# Altium schematic symbol library jlcpcb_2025_04_inductors_extended_1206.schlib: 159 symbols (part 2 of 3)
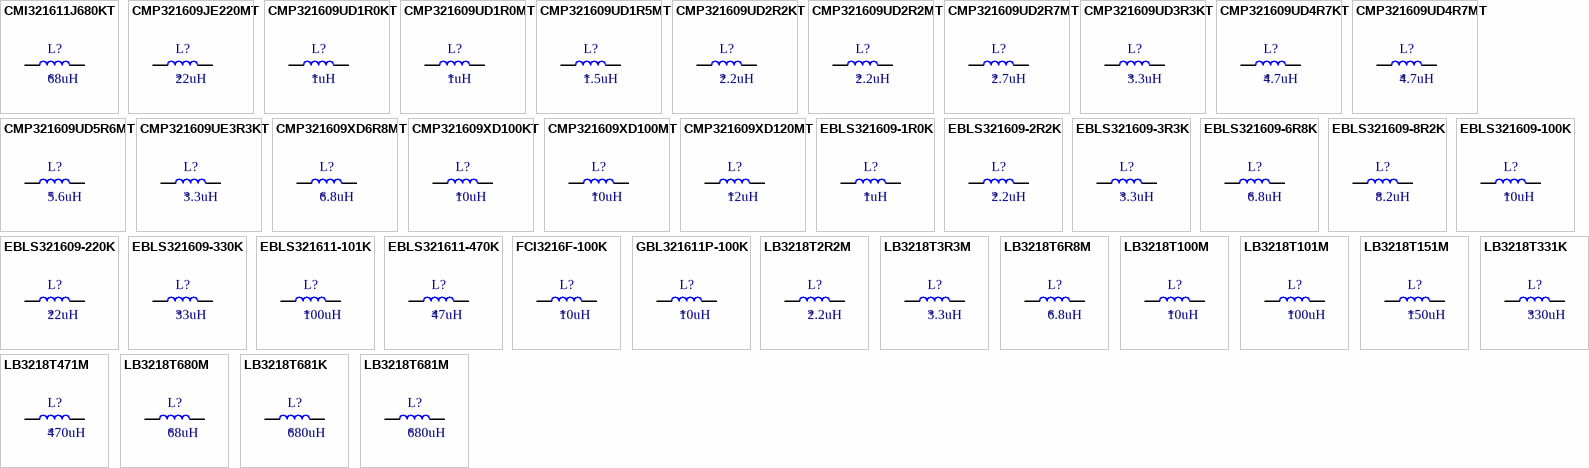
[diagram p4: symbols CMI321611J680KT to LB3218T681M]

## CMP321609UD4R7MT
designator L?  Inductance: 4.7uH
Inductor, 4.7uH, ±20%, 380mΩ, 700mA, SMD 1206; Manufacturer: FH(Guangdong Fenghua Advanced Tech); Manufacturer Part Number: CMP321609UD4R7MT; Self-Resonant Frequency: 35MHz; Package Size: 1206; JLCPCB Basic Part: No; JLCPCB Part Number: C139250; Supplier 1: LCSC; Category: Inductors; Supplier Part Number 1: C139250; Tolerance: ±20%; Rated Current: 700mA; DC Resistance: 380mΩ; RoHS: Yes; ComponentLink1Description: Datasheet; ComponentLink1URL: https://wmsc.lcsc.com/wmsc/upload/file/pdf/v2/lcsc/2302231230_FH--Guangdong-Fenghua-Advanced-Tech-CMP321609UD4R7MT_C139250.pdf; ComponentLink2Description: JLCPCB Part URL; ComponentLink2URL: https://jlcpcb.com/partdetail/C139250; ComponentLink3Description: LCSC Part URL; ComponentLink3URL: https://lcsc.com/product-detail/Inductors-SMD_FH-Guangdong-Fenghua-Advanced-Tech-FH-Guangdong-Fenghua-Advanced-Tech-CMP321609UD4R7MT_C139250.html
footprint IND-1206 (1206 (3216M) Inductor)
pins: 1, 2

## CMP321609UD5R6MT
designator L?  Inductance: 5.6uH
Inductor, 5.6uH, ±20%, 450mΩ, 500mA, SMD 1206; Manufacturer: FH(Guangdong Fenghua Advanced Tech); Manufacturer Part Number: CMP321609UD5R6MT; Self-Resonant Frequency: 32MHz; Package Size: 1206; JLCPCB Basic Part: No; JLCPCB Part Number: C395027; Supplier 1: LCSC; Category: Inductors; Supplier Part Number 1: C395027; Tolerance: ±20%; Rated Current: 500mA; DC Resistance: 450mΩ; RoHS: Yes; ComponentLink1Description: Datasheet; ComponentLink1URL: https://wmsc.lcsc.com/wmsc/upload/file/pdf/v2/lcsc/2302231208_FH--Guangdong-Fenghua-Advanced-Tech-CMP321609UD5R6MT_C395027.pdf; ComponentLink2Description: JLCPCB Part URL; ComponentLink2URL: https://jlcpcb.com/partdetail/C395027; ComponentLink3Description: LCSC Part URL; ComponentLink3URL: https://lcsc.com/product-detail/Inductors-SMD_FH-Guangdong-Fenghua-Advanced-Tech-FH-Guangdong-Fenghua-Advanced-Tech-CMP321609UD5R6MT_C395027.html
footprint IND-1206 (1206 (3216M) Inductor)
pins: 1, 2

## CMP321609UE3R3KT
designator L?  Inductance: 3.3uH
Inductor, 3.3uH, ±10%, SMD 1206; Manufacturer: FH (Guangdong Fenghua Advanced Tech); Manufacturer Part Number: CMP321609UE3R3KT; Package Size: 1206; JLCPCB Basic Part: No; JLCPCB Part Number: C401473; Supplier 1: LCSC; Category: Inductors; Supplier Part Number 1: C401473; Tolerance: ±10%; RoHS: Yes; ComponentLink1Description: Datasheet; ComponentLink2Description: JLCPCB Part URL; ComponentLink2URL: https://jlcpcb.com/partdetail/C401473; ComponentLink3Description: LCSC Part URL; ComponentLink3URL: https://lcsc.com/product-detail/Inductors-SMD_FH-Guangdong-Fenghua-Advanced-Tech-FH-Guangdong-Fenghua-Advanced-Tech-CMP321609UE3R3KT_C401473.html
footprint IND-1206 (1206 (3216M) Inductor)
pins: 1, 2

## CMP321609XD6R8MT
designator L?  Inductance: 6.8uH
Inductor, 6.8uH, ±20%, 450mΩ, 500mA, SMD 1206; Manufacturer: FH(Guangdong Fenghua Advanced Tech); Manufacturer Part Number: CMP321609XD6R8MT; Self-Resonant Frequency: 29MHz; Package Size: 1206; JLCPCB Basic Part: No; JLCPCB Part Number: C395031; Supplier 1: LCSC; Category: Inductors; Supplier Part Number 1: C395031; Tolerance: ±20%; Rated Current: 500mA; DC Resistance: 450mΩ; RoHS: Yes; ComponentLink1Description: Datasheet; ComponentLink1URL: https://wmsc.lcsc.com/wmsc/upload/file/pdf/v2/lcsc/2302231208_FH--Guangdong-Fenghua-Advanced-Tech-CMP321609XD6R8MT_C395031.pdf; ComponentLink2Description: JLCPCB Part URL; ComponentLink2URL: https://jlcpcb.com/partdetail/C395031; ComponentLink3Description: LCSC Part URL; ComponentLink3URL: https://lcsc.com/product-detail/Inductors-SMD_FH-Guangdong-Fenghua-Advanced-Tech-FH-Guangdong-Fenghua-Advanced-Tech-CMP321609XD6R8MT_C395031.html
footprint IND-1206 (1206 (3216M) Inductor)
pins: 1, 2

## CMP321609XD100KT
designator L?  Inductance: 10uH
Inductor, 10uH, ±10%, SMD 1206; Manufacturer: FH(Guangdong Fenghua Advanced Tech); Manufacturer Part Number: CMP321609XD100KT; Package Size: 1206; JLCPCB Basic Part: No; JLCPCB Part Number: C139251; Supplier 1: LCSC; Category: Inductors; Supplier Part Number 1: C139251; Tolerance: ±10%; RoHS: Yes; ComponentLink1Description: Datasheet; ComponentLink1URL: https://wmsc.lcsc.com/wmsc/upload/file/pdf/v2/lcsc/2304140030_FH--Guangdong-Fenghua-Advanced-Tech-CMP321609XD100KT_C139251.pdf; ComponentLink2Description: JLCPCB Part URL; ComponentLink2URL: https://jlcpcb.com/partdetail/C139251; ComponentLink3Description: LCSC Part URL; ComponentLink3URL: https://lcsc.com/product-detail/Inductors-SMD_FH-Guangdong-Fenghua-Advanced-Tech-FH-Guangdong-Fenghua-Advanced-Tech-CMP321609XD100KT_C139251.html
footprint IND-1206 (1206 (3216M) Inductor)
pins: 1, 2

## CMP321609XD100MT
designator L?  Inductance: 10uH
Inductor, 10uH, ±20%, 550mΩ, 300mA, SMD 1206; Manufacturer: FH(Guangdong Fenghua Advanced Tech); Manufacturer Part Number: CMP321609XD100MT; Self-Resonant Frequency: 24MHz; Package Size: 1206; JLCPCB Basic Part: No; JLCPCB Part Number: C395029; Supplier 1: LCSC; Category: Inductors; Supplier Part Number 1: C395029; Tolerance: ±20%; Rated Current: 300mA; DC Resistance: 550mΩ; RoHS: Yes; ComponentLink1Description: Datasheet; ComponentLink1URL: https://wmsc.lcsc.com/wmsc/upload/file/pdf/v2/lcsc/2302231208_FH--Guangdong-Fenghua-Advanced-Tech-CMP321609XD100MT_C395029.pdf; ComponentLink2Description: JLCPCB Part URL; ComponentLink2URL: https://jlcpcb.com/partdetail/C395029; ComponentLink3Description: LCSC Part URL; ComponentLink3URL: https://lcsc.com/product-detail/Inductors-SMD_FH-Guangdong-Fenghua-Advanced-Tech-FH-Guangdong-Fenghua-Advanced-Tech-CMP321609XD100MT_C395029.html
footprint IND-1206 (1206 (3216M) Inductor)
pins: 1, 2

## CMP321609XD120MT
designator L?  Inductance: 12uH
Inductor, 12uH, ±20%, 550mΩ, 300mA, SMD 1206; Manufacturer: FH(Guangdong Fenghua Advanced Tech); Manufacturer Part Number: CMP321609XD120MT; Self-Resonant Frequency: 22MHz; Package Size: 1206; JLCPCB Basic Part: No; JLCPCB Part Number: C395030; Supplier 1: LCSC; Category: Inductors; Supplier Part Number 1: C395030; Tolerance: ±20%; Rated Current: 300mA; DC Resistance: 550mΩ; RoHS: Yes; ComponentLink1Description: Datasheet; ComponentLink1URL: https://wmsc.lcsc.com/wmsc/upload/file/pdf/v2/lcsc/2302231208_FH--Guangdong-Fenghua-Advanced-Tech-CMP321609XD120MT_C395030.pdf; ComponentLink2Description: JLCPCB Part URL; ComponentLink2URL: https://jlcpcb.com/partdetail/C395030; ComponentLink3Description: LCSC Part URL; ComponentLink3URL: https://lcsc.com/product-detail/Inductors-SMD_FH-Guangdong-Fenghua-Advanced-Tech-FH-Guangdong-Fenghua-Advanced-Tech-CMP321609XD120MT_C395030.html
footprint IND-1206 (1206 (3216M) Inductor)
pins: 1, 2

## EBLS321609-1R0K
designator L?  Inductance: 1uH
Inductor, 1uH, ±10%, 0.4Ω, 100mA, SMD 1206; Manufacturer: HYHONGYEX; Manufacturer Part Number: EBLS321609-1R0K; Self-Resonant Frequency: 75MHz; Q Factor: 45@10MHz; Package Size: 1206; JLCPCB Basic Part: No; JLCPCB Part Number: C963816; Supplier 1: LCSC; Category: Inductors; Supplier Part Number 1: C963816; Tolerance: ±10%; Rated Current: 100mA; DC Resistance: 0.4Ω; RoHS: Yes; ComponentLink1Description: Datasheet; ComponentLink1URL: https://wmsc.lcsc.com/wmsc/upload/file/pdf/v2/lcsc/2305190958_HYHONGYEX-EBLS321609-1R0K_C963816.pdf; ComponentLink2Description: JLCPCB Part URL; ComponentLink2URL: https://jlcpcb.com/partdetail/C963816; ComponentLink3Description: LCSC Part URL; ComponentLink3URL: https://lcsc.com/product-detail/Inductors-SMD_HYHONGYEX-HYHONGYEX-EBLS321609-1R0K_C963816.html
footprint IND-1206 (1206 (3216M) Inductor)
pins: 1, 2

## EBLS321609-2R2K
designator L?  Inductance: 2.2uH
Inductor, 2.2uH, ±10%, 0.6Ω, 50mA, SMD 1206; Manufacturer: HYHONGYEX; Manufacturer Part Number: EBLS321609-2R2K; Self-Resonant Frequency: 50MHz; Q Factor: 45@10MHz; Package Size: 1206; JLCPCB Basic Part: No; JLCPCB Part Number: C963817; Supplier 1: LCSC; Category: Inductors; Supplier Part Number 1: C963817; Tolerance: ±10%; Rated Current: 50mA; DC Resistance: 0.6Ω; RoHS: Yes; ComponentLink1Description: Datasheet; ComponentLink1URL: https://wmsc.lcsc.com/wmsc/upload/file/pdf/v2/lcsc/2305190958_HYHONGYEX-EBLS321609-2R2K_C963817.pdf; ComponentLink2Description: JLCPCB Part URL; ComponentLink2URL: https://jlcpcb.com/partdetail/C963817; ComponentLink3Description: LCSC Part URL; ComponentLink3URL: https://lcsc.com/product-detail/Inductors-SMD_HYHONGYEX-HYHONGYEX-EBLS321609-2R2K_C963817.html
footprint IND-1206 (1206 (3216M) Inductor)
pins: 1, 2

## EBLS321609-3R3K
designator L?  Inductance: 3.3uH
Inductor, 3.3uH, ±10%, 0.7Ω, 50mA, SMD 1206; Manufacturer: HYHONGYEX; Manufacturer Part Number: EBLS321609-3R3K; Package Size: 1206; JLCPCB Basic Part: No; JLCPCB Part Number: C963818; Supplier 1: LCSC; Category: Inductors; Supplier Part Number 1: C963818; Tolerance: ±10%; Rated Current: 50mA; DC Resistance: 0.7Ω; RoHS: Yes; ComponentLink1Description: Datasheet; ComponentLink1URL: https://wmsc.lcsc.com/wmsc/upload/file/pdf/v2/lcsc/2305190958_HYHONGYEX-EBLS321609-3R3K_C963818.pdf; ComponentLink2Description: JLCPCB Part URL; ComponentLink2URL: https://jlcpcb.com/partdetail/C963818; ComponentLink3Description: LCSC Part URL; ComponentLink3URL: https://lcsc.com/product-detail/Inductors-SMD_HYHONGYEX-HYHONGYEX-EBLS321609-3R3K_C963818.html
footprint IND-1206 (1206 (3216M) Inductor)
pins: 1, 2

## EBLS321609-6R8K
designator L?  Inductance: 6.8uH
Inductor, 6.8uH, ±10%, 0.8Ω, 25mA, SMD 1206; Manufacturer: HYHONGYEX; Manufacturer Part Number: EBLS321609-6R8K; Self-Resonant Frequency: 29MHz; Q Factor: 50@4MHz; Package Size: 1206; JLCPCB Basic Part: No; JLCPCB Part Number: C963821; Supplier 1: LCSC; Category: Inductors; Supplier Part Number 1: C963821; Tolerance: ±10%; Rated Current: 25mA; DC Resistance: 0.8Ω; RoHS: Yes; ComponentLink1Description: Datasheet; ComponentLink1URL: https://wmsc.lcsc.com/wmsc/upload/file/pdf/v2/lcsc/2305190958_HYHONGYEX-EBLS321609-6R8K_C963821.pdf; ComponentLink2Description: JLCPCB Part URL; ComponentLink2URL: https://jlcpcb.com/partdetail/C963821; ComponentLink3Description: LCSC Part URL; ComponentLink3URL: https://lcsc.com/product-detail/Inductors-SMD_HYHONGYEX-HYHONGYEX-EBLS321609-6R8K_C963821.html
footprint IND-1206 (1206 (3216M) Inductor)
pins: 1, 2

## EBLS321609-8R2K
designator L?  Inductance: 8.2uH
Inductor, 8.2uH, ±10%, 0.9Ω, 25mA, SMD 1206; Manufacturer: HYHONGYEX; Manufacturer Part Number: EBLS321609-8R2K; Package Size: 1206; JLCPCB Basic Part: No; JLCPCB Part Number: C963822; Supplier 1: LCSC; Category: Inductors; Supplier Part Number 1: C963822; Tolerance: ±10%; Rated Current: 25mA; DC Resistance: 0.9Ω; RoHS: Yes; ComponentLink1Description: Datasheet; ComponentLink1URL: https://wmsc.lcsc.com/wmsc/upload/file/pdf/v2/lcsc/2305190958_HYHONGYEX-EBLS321609-8R2K_C963822.pdf; ComponentLink2Description: JLCPCB Part URL; ComponentLink2URL: https://jlcpcb.com/partdetail/C963822; ComponentLink3Description: LCSC Part URL; ComponentLink3URL: https://lcsc.com/product-detail/Inductors-SMD_HYHONGYEX-HYHONGYEX-EBLS321609-8R2K_C963822.html
footprint IND-1206 (1206 (3216M) Inductor)
pins: 1, 2

## EBLS321609-100K
designator L?  Inductance: 10uH
Inductor, 10uH, ±10%, 1Ω, 25mA, SMD 1206; Manufacturer: HYHONGYEX; Manufacturer Part Number: EBLS321609-100K; Self-Resonant Frequency: 24MHz; Q Factor: 50@2MHz; Package Size: 1206; JLCPCB Basic Part: No; JLCPCB Part Number: C963823; Supplier 1: LCSC; Category: Inductors; Supplier Part Number 1: C963823; Tolerance: ±10%; Rated Current: 25mA; DC Resistance: 1Ω; RoHS: Yes; ComponentLink1Description: Datasheet; ComponentLink1URL: https://wmsc.lcsc.com/wmsc/upload/file/pdf/v2/lcsc/2305190958_HYHONGYEX-EBLS321609-100K_C963823.pdf; ComponentLink2Description: JLCPCB Part URL; ComponentLink2URL: https://jlcpcb.com/partdetail/C963823; ComponentLink3Description: LCSC Part URL; ComponentLink3URL: https://lcsc.com/product-detail/Inductors-SMD_HYHONGYEX-HYHONGYEX-EBLS321609-100K_C963823.html
footprint IND-1206 (1206 (3216M) Inductor)
pins: 1, 2

## EBLS321609-220K
designator L?  Inductance: 22uH
Inductor, 22uH, ±10%, 0.9Ω, 5mA, SMD 1206; Manufacturer: HYHONGYEX; Manufacturer Part Number: EBLS321609-220K; Package Size: 1206; JLCPCB Basic Part: No; JLCPCB Part Number: C963824; Supplier 1: LCSC; Category: Inductors; Supplier Part Number 1: C963824; Tolerance: ±10%; Rated Current: 5mA; DC Resistance: 0.9Ω; RoHS: Yes; ComponentLink1Description: Datasheet; ComponentLink1URL: https://wmsc.lcsc.com/wmsc/upload/file/pdf/v2/lcsc/2305190958_HYHONGYEX-EBLS321609-220K_C963824.pdf; ComponentLink2Description: JLCPCB Part URL; ComponentLink2URL: https://jlcpcb.com/partdetail/C963824; ComponentLink3Description: LCSC Part URL; ComponentLink3URL: https://lcsc.com/product-detail/Inductors-SMD_HYHONGYEX-HYHONGYEX-EBLS321609-220K_C963824.html
footprint IND-1206 (1206 (3216M) Inductor)
pins: 1, 2

## EBLS321609-330K
designator L?  Inductance: 33uH
Inductor, 33uH, ±10%, SMD 1206; Manufacturer: HYHONGYEX; Manufacturer Part Number: EBLS321609-330K; Package Size: 1206; JLCPCB Basic Part: No; JLCPCB Part Number: C963825; Supplier 1: LCSC; Category: Inductors; Supplier Part Number 1: C963825; Tolerance: ±10%; RoHS: Yes; ComponentLink1Description: Datasheet; ComponentLink1URL: https://wmsc.lcsc.com/wmsc/upload/file/pdf/v2/lcsc/2109282030_HYHONGYEX-EBLS321609-330K_C963825.pdf; ComponentLink2Description: JLCPCB Part URL; ComponentLink2URL: https://jlcpcb.com/partdetail/C963825; ComponentLink3Description: LCSC Part URL; ComponentLink3URL: https://lcsc.com/product-detail/Inductors-SMD_HYHONGYEX-HYHONGYEX-EBLS321609-330K_C963825.html
footprint IND-1206 (1206 (3216M) Inductor)
pins: 1, 2

## EBLS321611-101K
designator L?  Inductance: 100uH
Inductor, 100uH, ±10%, 4.5Ω, 5mA, SMD 1206; Manufacturer: HYHONGYEX; Manufacturer Part Number: EBLS321611-101K; Self-Resonant Frequency: 8MHz; Q Factor: 30@1MHz; Package Size: 1206; JLCPCB Basic Part: No; JLCPCB Part Number: C963827; Supplier 1: LCSC; Category: Inductors; Supplier Part Number 1: C963827; Tolerance: ±10%; Rated Current: 5mA; DC Resistance: 4.5Ω; RoHS: Yes; ComponentLink1Description: Datasheet; ComponentLink1URL: https://wmsc.lcsc.com/wmsc/upload/file/pdf/v2/lcsc/2305190958_HYHONGYEX-EBLS321611-101K_C963827.pdf; ComponentLink2Description: JLCPCB Part URL; ComponentLink2URL: https://jlcpcb.com/partdetail/C963827; ComponentLink3Description: LCSC Part URL; ComponentLink3URL: https://lcsc.com/product-detail/Inductors-SMD_HYHONGYEX-HYHONGYEX-EBLS321611-101K_C963827.html
footprint IND-1206 (1206 (3216M) Inductor)
pins: 1, 2

## EBLS321611-470K
designator L?  Inductance: 47uH
Inductor, 47uH, ±10%, 3.4Ω, 5mA, SMD 1206; Manufacturer: HYHONGYEX; Manufacturer Part Number: EBLS321611-470K; Self-Resonant Frequency: 10MHz; Q Factor: 40@2MHz; Package Size: 1206; JLCPCB Basic Part: No; JLCPCB Part Number: C963826; Supplier 1: LCSC; Category: Inductors; Supplier Part Number 1: C963826; Tolerance: ±10%; Rated Current: 5mA; DC Resistance: 3.4Ω; RoHS: Yes; ComponentLink1Description: Datasheet; ComponentLink1URL: https://wmsc.lcsc.com/wmsc/upload/file/pdf/v2/lcsc/2305190958_HYHONGYEX-EBLS321611-470K_C963826.pdf; ComponentLink2Description: JLCPCB Part URL; ComponentLink2URL: https://jlcpcb.com/partdetail/C963826; ComponentLink3Description: LCSC Part URL; ComponentLink3URL: https://lcsc.com/product-detail/Inductors-SMD_HYHONGYEX-HYHONGYEX-EBLS321611-470K_C963826.html
footprint IND-1206 (1206 (3216M) Inductor)
pins: 1, 2

## FCI3216F-100K
designator L?  Inductance: 10uH
Inductor, 10uH, ±10%, 1Ω, 25mA, SMD 1206; Manufacturer: TAI-TECH; Manufacturer Part Number: FCI3216F-100K; Package Size: 1206; JLCPCB Basic Part: No; JLCPCB Part Number: C127290; Supplier 1: LCSC; Category: Inductors; Supplier Part Number 1: C127290; Tolerance: ±10%; Rated Current: 25mA; DC Resistance: 1Ω; RoHS: Yes; ComponentLink1Description: Datasheet; ComponentLink1URL: https://wmsc.lcsc.com/wmsc/upload/file/pdf/v2/lcsc/2009171134_TAI-TECH-FCI3216F-100K_C127290.pdf; ComponentLink2Description: JLCPCB Part URL; ComponentLink2URL: https://jlcpcb.com/partdetail/C127290; ComponentLink3Description: LCSC Part URL; ComponentLink3URL: https://lcsc.com/product-detail/Inductors-SMD_TAI-TECH-TAI-TECH-FCI3216F-100K_C127290.html
footprint IND-1206 (1206 (3216M) Inductor)
pins: 1, 2

## GBL321611P-100K
designator L?  Inductance: 10uH
Inductor, 10uH, ±10%, 1Ω, 25mA, SMD 1206; Manufacturer: Gotrend Tech; Manufacturer Part Number: GBL321611P-100K; Package Size: 1206; JLCPCB Basic Part: No; JLCPCB Part Number: C226153; Supplier 1: LCSC; Category: Inductors; Supplier Part Number 1: C226153; Tolerance: ±10%; Rated Current: 25mA; DC Resistance: 1Ω; RoHS: Yes; ComponentLink1Description: Datasheet; ComponentLink1URL: https://wmsc.lcsc.com/wmsc/upload/file/pdf/v2/lcsc/1810291932_Gotrend-Tech-GBL321611P-100K_C226153.pdf; ComponentLink2Description: JLCPCB Part URL; ComponentLink2URL: https://jlcpcb.com/partdetail/C226153; ComponentLink3Description: LCSC Part URL; ComponentLink3URL: https://lcsc.com/product-detail/Inductors-SMD_Gotrend-Tech-Gotrend-Tech-GBL321611P-100K_C226153.html
footprint IND-1206 (1206 (3216M) Inductor)
pins: 1, 2

## LB3218T2R2M
designator L?  Inductance: 2.2uH
Inductor, 2.2uH, ±20%, 90mΩ, 775mA, SMD 1206; Manufacturer: Taiyo Yuden; Manufacturer Part Number: LB3218T2R2M; Package Size: 1206; JLCPCB Basic Part: No; JLCPCB Part Number: C223381; Supplier 1: LCSC; Category: Inductors; Supplier Part Number 1: C223381; Tolerance: ±20%; Rated Current: 775mA; DC Resistance: 90mΩ; RoHS: Yes; ComponentLink1Description: Datasheet; ComponentLink1URL: https://wmsc.lcsc.com/wmsc/upload/file/pdf/v2/lcsc/2304140030_Taiyo-Yuden-LB3218T2R2M_C223381.pdf; ComponentLink2Description: JLCPCB Part URL; ComponentLink2URL: https://jlcpcb.com/partdetail/C223381; ComponentLink3Description: LCSC Part URL; ComponentLink3URL: https://lcsc.com/product-detail/Inductors-SMD_Taiyo-Yuden-Taiyo-Yuden-LB3218T2R2M_C223381.html
footprint IND-1206 (1206 (3216M) Inductor)
pins: 1, 2

## LB3218T3R3M
designator L?  Inductance: 3.3uH
Inductor, 3.3uH, ±20%, 110mΩ, 560mA, SMD 1206; Manufacturer: Taiyo Yuden; Manufacturer Part Number: LB3218T3R3M; Package Size: 1206; JLCPCB Basic Part: No; JLCPCB Part Number: C223382; Supplier 1: LCSC; Category: Inductors; Supplier Part Number 1: C223382; Tolerance: ±20%; Rated Current: 560mA; DC Resistance: 110mΩ; RoHS: Yes; ComponentLink1Description: Datasheet; ComponentLink1URL: https://wmsc.lcsc.com/wmsc/upload/file/pdf/v2/lcsc/2304140030_Taiyo-Yuden-LB3218T3R3M_C223382.pdf; ComponentLink2Description: JLCPCB Part URL; ComponentLink2URL: https://jlcpcb.com/partdetail/C223382; ComponentLink3Description: LCSC Part URL; ComponentLink3URL: https://lcsc.com/product-detail/Inductors-SMD_Taiyo-Yuden-Taiyo-Yuden-LB3218T3R3M_C223382.html
footprint IND-1206 (1206 (3216M) Inductor)
pins: 1, 2

## LB3218T6R8M
designator L?  Inductance: 6.8uH
Inductor, 6.8uH, ±20%, 170mΩ, 380mA, SMD 1206; Manufacturer: Taiyo Yuden; Manufacturer Part Number: LB3218T6R8M; Package Size: 1206; JLCPCB Basic Part: No; JLCPCB Part Number: C223384; Supplier 1: LCSC; Category: Inductors; Supplier Part Number 1: C223384; Tolerance: ±20%; Rated Current: 380mA; DC Resistance: 170mΩ; RoHS: Yes; ComponentLink1Description: Datasheet; ComponentLink1URL: https://wmsc.lcsc.com/wmsc/upload/file/pdf/v2/lcsc/2304140030_Taiyo-Yuden-LB3218T6R8M_C223384.pdf; ComponentLink2Description: JLCPCB Part URL; ComponentLink2URL: https://jlcpcb.com/partdetail/C223384; ComponentLink3Description: LCSC Part URL; ComponentLink3URL: https://lcsc.com/product-detail/Inductors-SMD_Taiyo-Yuden-Taiyo-Yuden-LB3218T6R8M_C223384.html
footprint IND-1206 (1206 (3216M) Inductor)
pins: 1, 2

## LB3218T100M
designator L?  Inductance: 10uH
Inductor, 10uH, ±20%, 250mΩ, 340mA, SMD 1206; Manufacturer: Taiyo Yuden; Manufacturer Part Number: LB3218T100M; Package Size: 1206; JLCPCB Basic Part: No; JLCPCB Part Number: C223385; Supplier 1: LCSC; Category: Inductors; Supplier Part Number 1: C223385; Tolerance: ±20%; Rated Current: 340mA; DC Resistance: 250mΩ; RoHS: Yes; ComponentLink1Description: Datasheet; ComponentLink1URL: https://wmsc.lcsc.com/wmsc/upload/file/pdf/v2/lcsc/2304140030_Taiyo-Yuden-LB3218T100M_C223385.pdf; ComponentLink2Description: JLCPCB Part URL; ComponentLink2URL: https://jlcpcb.com/partdetail/C223385; ComponentLink3Description: LCSC Part URL; ComponentLink3URL: https://lcsc.com/product-detail/Inductors-SMD_Taiyo-Yuden-Taiyo-Yuden-LB3218T100M_C223385.html
footprint IND-1206 (1206 (3216M) Inductor)
pins: 1, 2

## LB3218T101M
designator L?  Inductance: 100uH
Inductor, 100uH, ±20%, 2.4Ω, 140mA, SMD 1206; Manufacturer: Taiyo Yuden; Manufacturer Part Number: LB3218T101M; Package Size: 1206; JLCPCB Basic Part: No; JLCPCB Part Number: C223391; Supplier 1: LCSC; Category: Inductors; Supplier Part Number 1: C223391; Tolerance: ±20%; Rated Current: 140mA; DC Resistance: 2.4Ω; RoHS: Yes; ComponentLink1Description: Datasheet; ComponentLink1URL: https://wmsc.lcsc.com/wmsc/upload/file/pdf/v2/lcsc/2304140030_Taiyo-Yuden-LB3218T101M_C223391.pdf; ComponentLink2Description: JLCPCB Part URL; ComponentLink2URL: https://jlcpcb.com/partdetail/C223391; ComponentLink3Description: LCSC Part URL; ComponentLink3URL: https://lcsc.com/product-detail/Inductors-SMD_Taiyo-Yuden-Taiyo-Yuden-LB3218T101M_C223391.html
footprint IND-1206 (1206 (3216M) Inductor)
pins: 1, 2

## LB3218T151M
designator L?  Inductance: 150uH
Inductor, 150uH, ±20%, 3.2Ω, 105mA, SMD 1206; Manufacturer: Taiyo Yuden; Manufacturer Part Number: LB3218T151M; Self-Resonant Frequency: 252kHz; Package Size: 1206; JLCPCB Basic Part: No; JLCPCB Part Number: C223392; Supplier 1: LCSC; Category: Inductors; Supplier Part Number 1: C223392; Tolerance: ±20%; Rated Current: 105mA; DC Resistance: 3.2Ω; RoHS: Yes; ComponentLink1Description: Datasheet; ComponentLink1URL: https://wmsc.lcsc.com/wmsc/upload/file/pdf/v2/lcsc/2304140030_Taiyo-Yuden-LB3218T151M_C223392.pdf; ComponentLink2Description: JLCPCB Part URL; ComponentLink2URL: https://jlcpcb.com/partdetail/C223392; ComponentLink3Description: LCSC Part URL; ComponentLink3URL: https://lcsc.com/product-detail/Inductors-SMD_Taiyo-Yuden-Taiyo-Yuden-LB3218T151M_C223392.html
footprint IND-1206 (1206 (3216M) Inductor)
pins: 1, 2

## LB3218T331K
designator L?  Inductance: 330uH
Inductor, 330uH, ±10%, 7Ω, 65mA, SMD 1206; Manufacturer: Taiyo Yuden; Manufacturer Part Number: LB3218T331K; Self-Resonant Frequency: 796kHz; Package Size: 1206; JLCPCB Basic Part: No; JLCPCB Part Number: C223407; Supplier 1: LCSC; Category: Inductors; Supplier Part Number 1: C223407; Tolerance: ±10%; Rated Current: 65mA; DC Resistance: 7Ω; RoHS: Yes; ComponentLink1Description: Datasheet; ComponentLink1URL: https://wmsc.lcsc.com/wmsc/upload/file/pdf/v2/lcsc/2304140030_Taiyo-Yuden-LB3218T331K_C223407.pdf; ComponentLink2Description: JLCPCB Part URL; ComponentLink2URL: https://jlcpcb.com/partdetail/C223407; ComponentLink3Description: LCSC Part URL; ComponentLink3URL: https://lcsc.com/product-detail/Inductors-SMD_Taiyo-Yuden-Taiyo-Yuden-LB3218T331K_C223407.html
footprint IND-1206 (1206 (3216M) Inductor)
pins: 1, 2

## LB3218T471M
designator L?  Inductance: 470uH
Inductor, 470uH, ±20%, 14Ω, 54mA, SMD 1206; Manufacturer: Taiyo Yuden; Manufacturer Part Number: LB3218T471M; Package Size: 1206; JLCPCB Basic Part: No; JLCPCB Part Number: C223395; Supplier 1: LCSC; Category: Inductors; Supplier Part Number 1: C223395; Tolerance: ±20%; Rated Current: 54mA; DC Resistance: 14Ω; RoHS: Yes; ComponentLink1Description: Datasheet; ComponentLink1URL: https://wmsc.lcsc.com/wmsc/upload/file/pdf/v2/lcsc/2304140030_Taiyo-Yuden-LB3218T471M_C223395.pdf; ComponentLink2Description: JLCPCB Part URL; ComponentLink2URL: https://jlcpcb.com/partdetail/C223395; ComponentLink3Description: LCSC Part URL; ComponentLink3URL: https://lcsc.com/product-detail/Inductors-SMD_Taiyo-Yuden-Taiyo-Yuden-LB3218T471M_C223395.html
footprint IND-1206 (1206 (3216M) Inductor)
pins: 1, 2

## LB3218T680M
designator L?  Inductance: 68uH
Inductor, 68uH, ±20%, 1.49Ω, 145mA, SMD 1206; Manufacturer: Taiyo Yuden; Manufacturer Part Number: LB3218T680M; Package Size: 1206; JLCPCB Basic Part: No; JLCPCB Part Number: C223390; Supplier 1: LCSC; Category: Inductors; Supplier Part Number 1: C223390; Tolerance: ±20%; Rated Current: 145mA; DC Resistance: 1.49Ω; RoHS: Yes; ComponentLink1Description: Datasheet; ComponentLink1URL: https://wmsc.lcsc.com/wmsc/upload/file/pdf/v2/lcsc/2304140030_Taiyo-Yuden-LB3218T680M_C223390.pdf; ComponentLink2Description: JLCPCB Part URL; ComponentLink2URL: https://jlcpcb.com/partdetail/C223390; ComponentLink3Description: LCSC Part URL; ComponentLink3URL: https://lcsc.com/product-detail/Inductors-SMD_Taiyo-Yuden-Taiyo-Yuden-LB3218T680M_C223390.html
footprint IND-1206 (1206 (3216M) Inductor)
pins: 1, 2

## LB3218T681K
designator L?  Inductance: 680uH
Inductor, 680uH, ±10%, 17Ω, 45mA, SMD 1206; Manufacturer: Taiyo Yuden; Manufacturer Part Number: LB3218T681K; Package Size: 1206; JLCPCB Basic Part: No; JLCPCB Part Number: C223409; Supplier 1: LCSC; Category: Inductors; Supplier Part Number 1: C223409; Tolerance: ±10%; Rated Current: 45mA; DC Resistance: 17Ω; RoHS: Yes; ComponentLink1Description: Datasheet; ComponentLink1URL: https://wmsc.lcsc.com/wmsc/upload/file/pdf/v2/lcsc/2304140030_Taiyo-Yuden-LB3218T681K_C223409.pdf; ComponentLink2Description: JLCPCB Part URL; ComponentLink2URL: https://jlcpcb.com/partdetail/C223409; ComponentLink3Description: LCSC Part URL; ComponentLink3URL: https://lcsc.com/product-detail/Inductors-SMD_Taiyo-Yuden-Taiyo-Yuden-LB3218T681K_C223409.html
footprint IND-1206 (1206 (3216M) Inductor)
pins: 1, 2

## LB3218T681M
designator L?  Inductance: 680uH
Inductor, 680uH, ±20%, 17Ω, 45mA, SMD 1206; Manufacturer: Taiyo Yuden; Manufacturer Part Number: LB3218T681M; Self-Resonant Frequency: 252kHz; Package Size: 1206; JLCPCB Basic Part: No; JLCPCB Part Number: C223396; Supplier 1: LCSC; Category: Inductors; Supplier Part Number 1: C223396; Tolerance: ±20%; Rated Current: 45mA; DC Resistance: 17Ω; RoHS: Yes; ComponentLink1Description: Datasheet; ComponentLink1URL: https://wmsc.lcsc.com/wmsc/upload/file/pdf/v2/lcsc/2304140030_Taiyo-Yuden-LB3218T681M_C223396.pdf; ComponentLink2Description: JLCPCB Part URL; ComponentLink2URL: https://jlcpcb.com/partdetail/C223396; ComponentLink3Description: LCSC Part URL; ComponentLink3URL: https://lcsc.com/product-detail/Inductors-SMD_Taiyo-Yuden-Taiyo-Yuden-LB3218T681M_C223396.html
footprint IND-1206 (1206 (3216M) Inductor)
pins: 1, 2

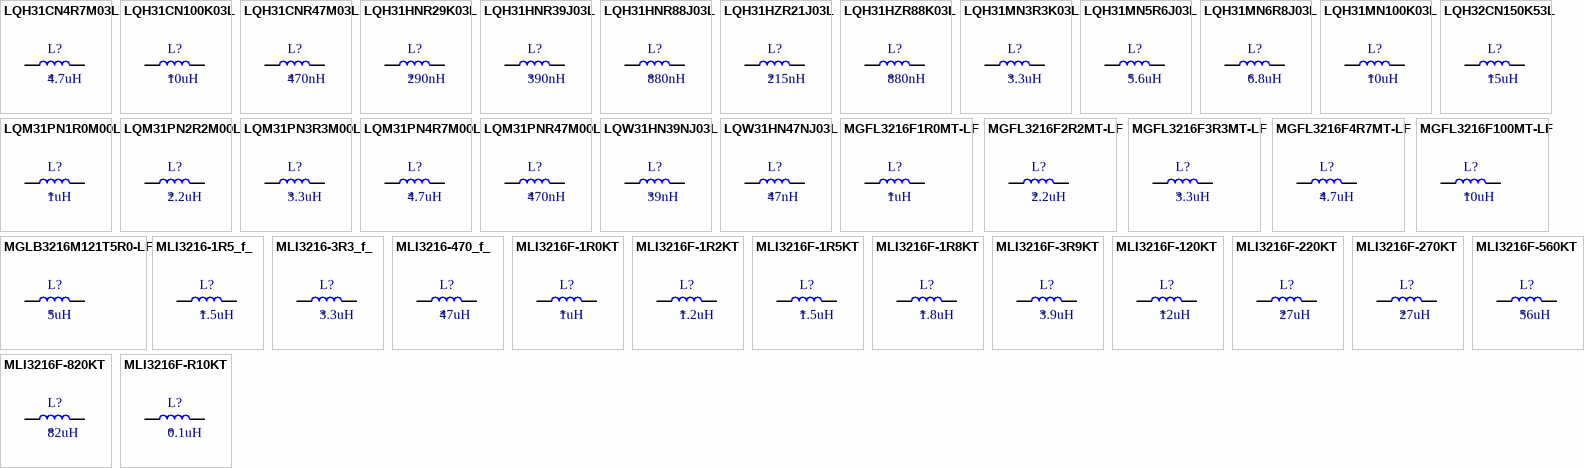
[diagram p2: symbols LQH31CN4R7M03L to MLI3216F-R10KT]

## LQH31CN4R7M03L
designator L?  Inductance: 4.7uH
Inductor, 4.7uH, ±20%, 650mΩ, 340mA, SMD 1206; Manufacturer: Murata Electronics; Manufacturer Part Number: LQH31CN4R7M03L; Package Size: 1206; JLCPCB Basic Part: No; JLCPCB Part Number: C132196; Supplier 1: LCSC; Category: Inductors; Supplier Part Number 1: C132196; Tolerance: ±20%; Rated Current: 340mA; DC Resistance: 650mΩ; RoHS: Yes; ComponentLink1Description: Datasheet; ComponentLink1URL: https://wmsc.lcsc.com/wmsc/upload/file/pdf/v2/lcsc/2304140030_Murata-Electronics-LQH31CN4R7M03L_C132196.pdf; ComponentLink2Description: JLCPCB Part URL; ComponentLink2URL: https://jlcpcb.com/partdetail/C132196; ComponentLink3Description: LCSC Part URL; ComponentLink3URL: https://lcsc.com/product-detail/Power-Inductors_Murata-Electronics-Murata-Electronics-LQH31CN4R7M03L_C132196.html
footprint IND-1206 (1206 (3216M) Inductor)
pins: 1, 2

## LQH31CN100K03L
designator L?  Inductance: 10uH
Inductor, 10uH, ±10%, 1.3Ω, 230mA, SMD 1206; Manufacturer: Murata Electronics; Manufacturer Part Number: LQH31CN100K03L; Self-Resonant Frequency: 20MHz; Package Size: 1206; JLCPCB Basic Part: No; JLCPCB Part Number: C440217; Supplier 1: LCSC; Category: Inductors; Supplier Part Number 1: C440217; Tolerance: ±10%; Rated Current: 230mA; DC Resistance: 1.3Ω; RoHS: Yes; ComponentLink1Description: Datasheet; ComponentLink1URL: https://wmsc.lcsc.com/wmsc/upload/file/pdf/v2/lcsc/2304140030_Murata-Electronics-LQH31CN100K03L_C440217.pdf; ComponentLink2Description: JLCPCB Part URL; ComponentLink2URL: https://jlcpcb.com/partdetail/C440217; ComponentLink3Description: LCSC Part URL; ComponentLink3URL: https://lcsc.com/product-detail/Inductors-SMD_Murata-Electronics-Murata-Electronics-LQH31CN100K03L_C440217.html
footprint IND-1206 (1206 (3216M) Inductor)
pins: 1, 2

## LQH31CNR47M03L
designator L?  Inductance: 470nH
Inductor, 470nH, ±20%, 150mΩ, 700mA, SMD 1206; Manufacturer: Murata Electronics; Manufacturer Part Number: LQH31CNR47M03L; Self-Resonant Frequency: 180MHz; Package Size: 1206; JLCPCB Basic Part: No; JLCPCB Part Number: C307596; Supplier 1: LCSC; Category: Inductors; Supplier Part Number 1: C307596; Tolerance: ±20%; Rated Current: 700mA; DC Resistance: 150mΩ; RoHS: Yes; ComponentLink1Description: Datasheet; ComponentLink1URL: https://wmsc.lcsc.com/wmsc/upload/file/pdf/v2/lcsc/2304140030_Murata-Electronics-LQH31CNR47M03L_C307596.pdf; ComponentLink2Description: JLCPCB Part URL; ComponentLink2URL: https://jlcpcb.com/partdetail/C307596; ComponentLink3Description: LCSC Part URL; ComponentLink3URL: https://lcsc.com/product-detail/Inductors-SMD_Murata-Electronics-Murata-Electronics-LQH31CNR47M03L_C307596.html
footprint IND-1206 (1206 (3216M) Inductor)
pins: 1, 2

## LQH31HNR29K03L
designator L?  Inductance: 290nH
Inductor, 290nH, ±10%, 170mΩ, 420mA, SMD 1206; Manufacturer: Murata Electronics; Manufacturer Part Number: LQH31HNR29K03L; Package Size: 1206; JLCPCB Basic Part: No; JLCPCB Part Number: C337900; Supplier 1: LCSC; Category: Inductors; Supplier Part Number 1: C337900; Tolerance: ±10%; Rated Current: 420mA; DC Resistance: 170mΩ; RoHS: Yes; ComponentLink1Description: Datasheet; ComponentLink1URL: https://wmsc.lcsc.com/wmsc/upload/file/pdf/v2/lcsc/2304140030_Murata-Electronics-LQH31HNR29K03L_C337900.pdf; ComponentLink2Description: JLCPCB Part URL; ComponentLink2URL: https://jlcpcb.com/partdetail/C337900; ComponentLink3Description: LCSC Part URL; ComponentLink3URL: https://lcsc.com/product-detail/Inductors-SMD_Murata-Electronics-Murata-Electronics-LQH31HNR29K03L_C337900.html
footprint IND-1206 (1206 (3216M) Inductor)
pins: 1, 2

## LQH31HNR39J03L
designator L?  Inductance: 390nH
Inductor, 390nH, ±5%, 260mΩ, 330mA, SMD 1206; Manufacturer: Murata Electronics; Manufacturer Part Number: LQH31HNR39J03L; Package Size: 1206; JLCPCB Basic Part: No; JLCPCB Part Number: C527591; Supplier 1: LCSC; Category: Inductors; Supplier Part Number 1: C527591; Tolerance: ±5%; Rated Current: 330mA; DC Resistance: 260mΩ; RoHS: Yes; ComponentLink1Description: Datasheet; ComponentLink1URL: https://wmsc.lcsc.com/wmsc/upload/file/pdf/v2/lcsc/2304140030_Murata-Electronics-LQH31HNR39J03L_C527591.pdf; ComponentLink2Description: JLCPCB Part URL; ComponentLink2URL: https://jlcpcb.com/partdetail/C527591; ComponentLink3Description: LCSC Part URL; ComponentLink3URL: https://lcsc.com/product-detail/Power-Inductors_Murata-Electronics-Murata-Electronics-LQH31HNR39J03L_C527591.html
footprint IND-1206 (1206 (3216M) Inductor)
pins: 1, 2

## LQH31HNR88J03L
designator L?  Inductance: 880nH
Inductor, 880nH, ±5%, 1.118Ω, 180mA, SMD 1206; Manufacturer: Murata Electronics; Manufacturer Part Number: LQH31HNR88J03L; Package Size: 1206; JLCPCB Basic Part: No; JLCPCB Part Number: C417125; Supplier 1: LCSC; Category: Inductors; Supplier Part Number 1: C417125; Tolerance: ±5%; Rated Current: 180mA; DC Resistance: 1.118Ω; RoHS: Yes; ComponentLink1Description: Datasheet; ComponentLink1URL: https://wmsc.lcsc.com/wmsc/upload/file/pdf/v2/lcsc/1912111437_Murata-Electronics-LQH31HNR88J03L_C417125.pdf; ComponentLink2Description: JLCPCB Part URL; ComponentLink2URL: https://jlcpcb.com/partdetail/C417125; ComponentLink3Description: LCSC Part URL; ComponentLink3URL: https://lcsc.com/product-detail/Inductors-SMD_Murata-Electronics-Murata-Electronics-LQH31HNR88J03L_C417125.html
footprint IND-1206 (1206 (3216M) Inductor)
pins: 1, 2

## LQH31HZR21J03L
designator L?  Inductance: 215nH
Inductor, 215nH, ±5%, 110mΩ, 520mA, SMD 1206; Manufacturer: Murata Electronics; Manufacturer Part Number: LQH31HZR21J03L; Self-Resonant Frequency: 430MHz; Q Factor: 60@100MHz; Package Size: 1206; JLCPCB Basic Part: No; JLCPCB Part Number: C723898; Supplier 1: LCSC; Category: Inductors; Supplier Part Number 1: C723898; Tolerance: ±5%; Rated Current: 520mA; DC Resistance: 110mΩ; RoHS: Yes; ComponentLink1Description: Datasheet; ComponentLink1URL: https://wmsc.lcsc.com/wmsc/upload/file/pdf/v2/lcsc/2304140030_Murata-Electronics-LQH31HZR21J03L_C723898.pdf; ComponentLink2Description: JLCPCB Part URL; ComponentLink2URL: https://jlcpcb.com/partdetail/C723898; ComponentLink3Description: LCSC Part URL; ComponentLink3URL: https://lcsc.com/product-detail/Inductors-SMD_Murata-Electronics-Murata-Electronics-LQH31HZR21J03L_C723898.html
footprint IND-1206 (1206 (3216M) Inductor)
pins: 1, 2

## LQH31HZR88K03L
designator L?  Inductance: 880nH
Inductor, 880nH, ±10%, 860mΩ, 180mA, SMD 1206; Manufacturer: Murata Electronics; Manufacturer Part Number: LQH31HZR88K03L; Self-Resonant Frequency: 200MHz; Q Factor: 60@100MHz; Package Size: 1206; JLCPCB Basic Part: No; JLCPCB Part Number: C668448; Supplier 1: LCSC; Category: Inductors; Supplier Part Number 1: C668448; Tolerance: ±10%; Rated Current: 180mA; DC Resistance: 860mΩ; RoHS: Yes; ComponentLink1Description: Datasheet; ComponentLink1URL: https://wmsc.lcsc.com/wmsc/upload/file/pdf/v2/lcsc/2304140030_Murata-Electronics-LQH31HZR88K03L_C668448.pdf; ComponentLink2Description: JLCPCB Part URL; ComponentLink2URL: https://jlcpcb.com/partdetail/C668448; ComponentLink3Description: LCSC Part URL; ComponentLink3URL: https://lcsc.com/product-detail/Inductors-SMD_Murata-Electronics-Murata-Electronics-LQH31HZR88K03L_C668448.html
footprint IND-1206 (1206 (3216M) Inductor)
pins: 1, 2

## LQH31MN3R3K03L
designator L?  Inductance: 3.3uH
Inductor, 3.3uH, ±10%, 610mΩ, 130mA, SMD 1206; Manufacturer: Murata Electronics; Manufacturer Part Number: LQH31MN3R3K03L; Self-Resonant Frequency: 38MHz; Q Factor: 35@8MHz; Package Size: 1206; JLCPCB Basic Part: No; JLCPCB Part Number: C524631; Supplier 1: LCSC; Category: Inductors; Supplier Part Number 1: C524631; Tolerance: ±10%; Rated Current: 130mA; DC Resistance: 610mΩ; RoHS: Yes; ComponentLink1Description: Datasheet; ComponentLink1URL: https://wmsc.lcsc.com/wmsc/upload/file/pdf/v2/lcsc/2304140030_Murata-Electronics-LQH31MN3R3K03L_C524631.pdf; ComponentLink2Description: JLCPCB Part URL; ComponentLink2URL: https://jlcpcb.com/partdetail/C524631; ComponentLink3Description: LCSC Part URL; ComponentLink3URL: https://lcsc.com/product-detail/Inductors-SMD_Murata-Electronics-Murata-Electronics-LQH31MN3R3K03L_C524631.html
footprint IND-1206 (1206 (3216M) Inductor)
pins: 1, 2

## LQH31MN5R6J03L
designator L?  Inductance: 5.6uH
Inductor, 5.6uH, ±5%, 1.8Ω, 115mA, SMD 1206; Manufacturer: Murata Electronics; Manufacturer Part Number: LQH31MN5R6J03L; Self-Resonant Frequency: 28MHz; Q Factor: 35@8MHz; Package Size: 1206; JLCPCB Basic Part: No; JLCPCB Part Number: C1235493; Supplier 1: LCSC; Category: Inductors; Supplier Part Number 1: C1235493; Tolerance: ±5%; Rated Current: 115mA; DC Resistance: 1.8Ω; RoHS: Yes; ComponentLink1Description: Datasheet; ComponentLink1URL: https://wmsc.lcsc.com/wmsc/upload/file/pdf/v2/lcsc/2304140030_Murata-Electronics-LQH31MN5R6J03L_C1235493.pdf; ComponentLink2Description: JLCPCB Part URL; ComponentLink2URL: https://jlcpcb.com/partdetail/C1235493; ComponentLink3Description: LCSC Part URL; ComponentLink3URL: https://lcsc.com/product-detail/Inductors-SMD_Murata-Electronics-Murata-Electronics-LQH31MN5R6J03L_C1235493.html
footprint IND-1206 (1206 (3216M) Inductor)
pins: 1, 2

## LQH31MN6R8J03L
designator L?  Inductance: 6.8uH
Inductor, 6.8uH, ±5%, 2Ω, 110mA, SMD 1206; Manufacturer: Murata Electronics; Manufacturer Part Number: LQH31MN6R8J03L; Package Size: 1206; JLCPCB Basic Part: No; JLCPCB Part Number: C524632; Supplier 1: LCSC; Category: Inductors; Supplier Part Number 1: C524632; Tolerance: ±5%; Rated Current: 110mA; DC Resistance: 2Ω; RoHS: Yes; ComponentLink1Description: Datasheet; ComponentLink1URL: https://wmsc.lcsc.com/wmsc/upload/file/pdf/v2/lcsc/2304140030_Murata-Electronics-LQH31MN6R8J03L_C524632.pdf; ComponentLink2Description: JLCPCB Part URL; ComponentLink2URL: https://jlcpcb.com/partdetail/C524632; ComponentLink3Description: LCSC Part URL; ComponentLink3URL: https://lcsc.com/product-detail/Power-Inductors_Murata-Electronics-Murata-Electronics-LQH31MN6R8J03L_C524632.html
footprint IND-1206 (1206 (3216M) Inductor)
pins: 1, 2

## LQH31MN100K03L
designator L?  Inductance: 10uH
Inductor, 10uH, ±10%, 2.5Ω, SMD 1206; Manufacturer: Murata Electronics; Manufacturer Part Number: LQH31MN100K03L; Self-Resonant Frequency: 20MHz; Q Factor: 35@5MHz; Package Size: 1206; JLCPCB Basic Part: No; JLCPCB Part Number: C703075; Supplier 1: LCSC; Category: Inductors; Supplier Part Number 1: C703075; Tolerance: ±10%; DC Resistance: 2.5Ω; RoHS: Yes; ComponentLink1Description: Datasheet; ComponentLink1URL: https://wmsc.lcsc.com/wmsc/upload/file/pdf/v2/lcsc/2304140030_Murata-Electronics-LQH31MN100K03L_C703075.pdf; ComponentLink2Description: JLCPCB Part URL; ComponentLink2URL: https://jlcpcb.com/partdetail/C703075; ComponentLink3Description: LCSC Part URL; ComponentLink3URL: https://lcsc.com/product-detail/Inductors-SMD_Murata-Electronics-Murata-Electronics-LQH31MN100K03L_C703075.html
footprint IND-1206 (1206 (3216M) Inductor)
pins: 1, 2

## LQH32CN150K53L
designator L?  Inductance: 15uH
Inductor, 15uH, ±10%, 580mΩ, 300mA, SMD 1206; Manufacturer: Murata Electronics; Manufacturer Part Number: LQH32CN150K53L; Self-Resonant Frequency: 26MHz; Package Size: 1206; JLCPCB Basic Part: No; JLCPCB Part Number: C524633; Supplier 1: LCSC; Category: Inductors; Supplier Part Number 1: C524633; Tolerance: ±10%; Rated Current: 300mA; DC Resistance: 580mΩ; RoHS: Yes; ComponentLink1Description: Datasheet; ComponentLink1URL: https://wmsc.lcsc.com/wmsc/upload/file/pdf/v2/lcsc/2304140030_Murata-Electronics-LQH32CN150K53L_C524633.pdf; ComponentLink2Description: JLCPCB Part URL; ComponentLink2URL: https://jlcpcb.com/partdetail/C524633; ComponentLink3Description: LCSC Part URL; ComponentLink3URL: https://lcsc.com/product-detail/Inductors-SMD_Murata-Electronics-Murata-Electronics-LQH32CN150K53L_C524633.html
footprint IND-1206 (1206 (3216M) Inductor)
pins: 1, 2

## LQM31PN1R0M00L
designator L?  Inductance: 1uH
Inductor, 1uH, ±20%, 150mΩ, 1.2A, SMD 1206; Manufacturer: Murata Electronics; Manufacturer Part Number: LQM31PN1R0M00L; Package Size: 1206; JLCPCB Basic Part: No; JLCPCB Part Number: C184320; Supplier 1: LCSC; Category: Inductors; Supplier Part Number 1: C184320; Tolerance: ±20%; Rated Current: 1.2A; DC Resistance: 150mΩ; RoHS: Yes; ComponentLink1Description: Datasheet; ComponentLink1URL: https://wmsc.lcsc.com/wmsc/upload/file/pdf/v2/lcsc/2304140030_Murata-Electronics-LQM31PN1R0M00L_C184320.pdf; ComponentLink2Description: JLCPCB Part URL; ComponentLink2URL: https://jlcpcb.com/partdetail/C184320; ComponentLink3Description: LCSC Part URL; ComponentLink3URL: https://lcsc.com/product-detail/Inductors-SMD_Murata-Electronics-Murata-Electronics-LQM31PN1R0M00L_C184320.html
footprint IND-1206 (1206 (3216M) Inductor)
pins: 1, 2

## LQM31PN2R2M00L
designator L?  Inductance: 2.2uH
Inductor, 2.2uH, ±20%, 237.5mΩ, 900mA, SMD 1206; Manufacturer: Murata Electronics; Manufacturer Part Number: LQM31PN2R2M00L; Self-Resonant Frequency: 40MHz; Package Size: 1206; JLCPCB Basic Part: No; JLCPCB Part Number: C171763; Supplier 1: LCSC; Category: Inductors; Supplier Part Number 1: C171763; Tolerance: ±20%; Rated Current: 900mA; DC Resistance: 237.5mΩ; RoHS: Yes; ComponentLink1Description: Datasheet; ComponentLink1URL: https://wmsc.lcsc.com/wmsc/upload/file/pdf/v2/lcsc/1810201249_Murata-Electronics-LQM31PN2R2M00L_C171763.pdf; ComponentLink2Description: JLCPCB Part URL; ComponentLink2URL: https://jlcpcb.com/partdetail/C171763; ComponentLink3Description: LCSC Part URL; ComponentLink3URL: https://lcsc.com/product-detail/Inductors-SMD_Murata-Electronics-Murata-Electronics-LQM31PN2R2M00L_C171763.html
footprint IND-1206 (1206 (3216M) Inductor)
pins: 1, 2

## LQM31PN3R3M00L
designator L?  Inductance: 3.3uH
Inductor, 3.3uH, ±20%, 300mΩ, 800mA, SMD 1206; Manufacturer: Murata Electronics; Manufacturer Part Number: LQM31PN3R3M00L; Self-Resonant Frequency: 1MHz; Package Size: 1206; JLCPCB Basic Part: No; JLCPCB Part Number: C91612; Supplier 1: LCSC; Category: Inductors; Supplier Part Number 1: C91612; Tolerance: ±20%; Rated Current: 800mA; DC Resistance: 300mΩ; RoHS: Yes; ComponentLink1Description: Datasheet; ComponentLink1URL: https://wmsc.lcsc.com/wmsc/upload/file/pdf/v2/lcsc/1810201321_Murata-Electronics-LQM31PN3R3M00L_C91612.pdf; ComponentLink2Description: JLCPCB Part URL; ComponentLink2URL: https://jlcpcb.com/partdetail/C91612; ComponentLink3Description: LCSC Part URL; ComponentLink3URL: https://lcsc.com/product-detail/Inductors-SMD_Murata-Electronics-Murata-Electronics-LQM31PN3R3M00L_C91612.html
footprint IND-1206 (1206 (3216M) Inductor)
pins: 1, 2

## LQM31PN4R7M00L
designator L?  Inductance: 4.7uH
Inductor, 4.7uH, ±20%, 375mΩ, 700mA, SMD 1206; Manufacturer: Murata Electronics; Manufacturer Part Number: LQM31PN4R7M00L; Package Size: 1206; JLCPCB Basic Part: No; JLCPCB Part Number: C162588; Supplier 1: LCSC; Category: Inductors; Supplier Part Number 1: C162588; Tolerance: ±20%; Rated Current: 700mA; DC Resistance: 375mΩ; RoHS: Yes; ComponentLink1Description: Datasheet; ComponentLink1URL: https://wmsc.lcsc.com/wmsc/upload/file/pdf/v2/lcsc/2304140030_Murata-Electronics-LQM31PN4R7M00L_C162588.pdf; ComponentLink2Description: JLCPCB Part URL; ComponentLink2URL: https://jlcpcb.com/partdetail/C162588; ComponentLink3Description: LCSC Part URL; ComponentLink3URL: https://lcsc.com/product-detail/Inductors-SMD_Murata-Electronics-Murata-Electronics-LQM31PN4R7M00L_C162588.html
footprint IND-1206 (1206 (3216M) Inductor)
pins: 1, 2

## LQM31PNR47M00L
designator L?  Inductance: 470nH
Inductor, 470nH, ±20%, 70mΩ, 1.4A, SMD 1206; Manufacturer: Murata Electronics; Manufacturer Part Number: LQM31PNR47M00L; Self-Resonant Frequency: 80MHz; Package Size: 1206; JLCPCB Basic Part: No; JLCPCB Part Number: C882474; Supplier 1: LCSC; Category: Inductors; Supplier Part Number 1: C882474; Tolerance: ±20%; Rated Current: 1.4A; DC Resistance: 70mΩ; RoHS: Yes; ComponentLink1Description: Datasheet; ComponentLink1URL: https://wmsc.lcsc.com/wmsc/upload/file/pdf/v2/lcsc/2201242130_Murata-Electronics-LQM31PNR47M00L_C882474.pdf; ComponentLink2Description: JLCPCB Part URL; ComponentLink2URL: https://jlcpcb.com/partdetail/C882474; ComponentLink3Description: LCSC Part URL; ComponentLink3URL: https://lcsc.com/product-detail/Inductors-SMD_Murata-Electronics-Murata-Electronics-LQM31PNR47M00L_C882474.html
footprint IND-1206 (1206 (3216M) Inductor)
pins: 1, 2

## LQW31HN39NJ03L
designator L?  Inductance: 39nH
Inductor, 39nH, ±5%, 67mΩ, SMD 1206; Manufacturer: Murata Electronics; Manufacturer Part Number: LQW31HN39NJ03L; Self-Resonant Frequency: 1GHz; Q Factor: 60@436MHz; Package Size: 1206; JLCPCB Basic Part: No; JLCPCB Part Number: C527598; Supplier 1: LCSC; Category: Inductors; Supplier Part Number 1: C527598; Tolerance: ±5%; DC Resistance: 67mΩ; RoHS: Yes; ComponentLink1Description: Datasheet; ComponentLink1URL: https://wmsc.lcsc.com/wmsc/upload/file/pdf/v2/lcsc/2304140030_Murata-Electronics-LQW31HN39NJ03L_C527598.pdf; ComponentLink2Description: JLCPCB Part URL; ComponentLink2URL: https://jlcpcb.com/partdetail/C527598; ComponentLink3Description: LCSC Part URL; ComponentLink3URL: https://lcsc.com/product-detail/Inductors-SMD_Murata-Electronics-Murata-Electronics-LQW31HN39NJ03L_C527598.html
footprint IND-1206 (1206 (3216M) Inductor)
pins: 1, 2

## LQW31HN47NJ03L
designator L?  Inductance: 47nH
Inductor, 47nH, ±5%, 110mΩ, 380mA, SMD 1206; Manufacturer: Murata Electronics; Manufacturer Part Number: LQW31HN47NJ03L; Package Size: 1206; JLCPCB Basic Part: No; JLCPCB Part Number: C703072; Supplier 1: LCSC; Category: Inductors; Supplier Part Number 1: C703072; Tolerance: ±5%; Rated Current: 380mA; DC Resistance: 110mΩ; RoHS: Yes; ComponentLink1Description: Datasheet; ComponentLink1URL: https://wmsc.lcsc.com/wmsc/upload/file/pdf/v2/lcsc/2304140030_Murata-Electronics-LQW31HN47NJ03L_C703072.pdf; ComponentLink2Description: JLCPCB Part URL; ComponentLink2URL: https://jlcpcb.com/partdetail/C703072; ComponentLink3Description: LCSC Part URL; ComponentLink3URL: https://lcsc.com/product-detail/Power-Inductors_Murata-Electronics-Murata-Electronics-LQW31HN47NJ03L_C703072.html
footprint IND-1206 (1206 (3216M) Inductor)
pins: 1, 2

## MGFL3216F1R0MT-LF
designator L?  Inductance: 1uH
Inductor, 1uH, ±20%, 100mΩ, 1.6A, SMD 1206; Manufacturer: microgate; Manufacturer Part Number: MGFL3216F1R0MT-LF; Package Size: 1206; JLCPCB Basic Part: No; JLCPCB Part Number: C486335; Supplier 1: LCSC; Category: Inductors; Supplier Part Number 1: C486335; Tolerance: ±20%; Rated Current: 1.6A; DC Resistance: 100mΩ; RoHS: Yes; ComponentLink1Description: Datasheet; ComponentLink1URL: https://wmsc.lcsc.com/wmsc/upload/file/pdf/v2/lcsc/2304140030_microgate-MGFL3216F1R0MT-LF_C486335.pdf; ComponentLink2Description: JLCPCB Part URL; ComponentLink2URL: https://jlcpcb.com/partdetail/C486335; ComponentLink3Description: LCSC Part URL; ComponentLink3URL: https://lcsc.com/product-detail/Inductors-SMD_microgate-microgate-MGFL3216F1R0MT-LF_C486335.html
footprint IND-1206 (1206 (3216M) Inductor)
pins: 1, 2

## MGFL3216F2R2MT-LF
designator L?  Inductance: 2.2uH
Inductor, 2.2uH, ±20%, 150mΩ, 1.3A, SMD 1206; Manufacturer: microgate; Manufacturer Part Number: MGFL3216F2R2MT-LF; Package Size: 1206; JLCPCB Basic Part: No; JLCPCB Part Number: C486337; Supplier 1: LCSC; Category: Inductors; Supplier Part Number 1: C486337; Tolerance: ±20%; Rated Current: 1.3A; DC Resistance: 150mΩ; RoHS: Yes; ComponentLink1Description: Datasheet; ComponentLink1URL: https://wmsc.lcsc.com/wmsc/upload/file/pdf/v2/lcsc/2304140030_microgate-MGFL3216F2R2MT-LF_C486337.pdf; ComponentLink2Description: JLCPCB Part URL; ComponentLink2URL: https://jlcpcb.com/partdetail/C486337; ComponentLink3Description: LCSC Part URL; ComponentLink3URL: https://lcsc.com/product-detail/Inductors-SMD_microgate-microgate-MGFL3216F2R2MT-LF_C486337.html
footprint IND-1206 (1206 (3216M) Inductor)
pins: 1, 2

## MGFL3216F3R3MT-LF
designator L?  Inductance: 3.3uH
Inductor, 3.3uH, ±20%, 200mΩ, 1.2A, SMD 1206; Manufacturer: microgate; Manufacturer Part Number: MGFL3216F3R3MT-LF; Package Size: 1206; JLCPCB Basic Part: No; JLCPCB Part Number: C281118; Supplier 1: LCSC; Category: Inductors; Supplier Part Number 1: C281118; Tolerance: ±20%; Rated Current: 1.2A; DC Resistance: 200mΩ; RoHS: Yes; ComponentLink1Description: Datasheet; ComponentLink1URL: https://wmsc.lcsc.com/wmsc/upload/file/pdf/v2/lcsc/1811141852_microgate-MGFL3216F3R3MT-LF_C281118.pdf; ComponentLink2Description: JLCPCB Part URL; ComponentLink2URL: https://jlcpcb.com/partdetail/C281118; ComponentLink3Description: LCSC Part URL; ComponentLink3URL: https://lcsc.com/product-detail/Inductors-SMD_microgate-microgate-MGFL3216F3R3MT-LF_C281118.html
footprint IND-1206 (1206 (3216M) Inductor)
pins: 1, 2

## MGFL3216F4R7MT-LF
designator L?  Inductance: 4.7uH
Inductor, 4.7uH, ±20%, 320mΩ, 980mA, SMD 1206; Manufacturer: microgate; Manufacturer Part Number: MGFL3216F4R7MT-LF; Package Size: 1206; JLCPCB Basic Part: No; JLCPCB Part Number: C486338; Supplier 1: LCSC; Category: Inductors; Supplier Part Number 1: C486338; Tolerance: ±20%; Rated Current: 980mA; DC Resistance: 320mΩ; RoHS: Yes; ComponentLink1Description: Datasheet; ComponentLink1URL: https://wmsc.lcsc.com/wmsc/upload/file/pdf/v2/lcsc/2002201432_microgate-MGFL3216F4R7MT-LF_C486338.pdf; ComponentLink2Description: JLCPCB Part URL; ComponentLink2URL: https://jlcpcb.com/partdetail/C486338; ComponentLink3Description: LCSC Part URL; ComponentLink3URL: https://lcsc.com/product-detail/Inductors-SMD_microgate-microgate-MGFL3216F4R7MT-LF_C486338.html
footprint IND-1206 (1206 (3216M) Inductor)
pins: 1, 2

## MGFL3216F100MT-LF
designator L?  Inductance: 10uH
Inductor, 10uH, ±20%, 500mΩ, 670mA, SMD 1206; Manufacturer: microgate; Manufacturer Part Number: MGFL3216F100MT-LF; Package Size: 1206; JLCPCB Basic Part: No; JLCPCB Part Number: C281117; Supplier 1: LCSC; Category: Inductors; Supplier Part Number 1: C281117; Tolerance: ±20%; Rated Current: 670mA; DC Resistance: 500mΩ; RoHS: Yes; ComponentLink1Description: Datasheet; ComponentLink1URL: https://wmsc.lcsc.com/wmsc/upload/file/pdf/v2/lcsc/1811141852_microgate-MGFL3216F100MT-LF_C281117.pdf; ComponentLink2Description: JLCPCB Part URL; ComponentLink2URL: https://jlcpcb.com/partdetail/C281117; ComponentLink3Description: LCSC Part URL; ComponentLink3URL: https://lcsc.com/product-detail/Inductors-SMD_microgate-microgate-MGFL3216F100MT-LF_C281117.html
footprint IND-1206 (1206 (3216M) Inductor)
pins: 1, 2

## MGLB3216M121T5R0-LF
designator L?  Inductance: 5uH
Inductor, 5uH, SMD 1206; Manufacturer: microgate; Manufacturer Part Number: MGLB3216M121T5R0-LF; Package Size: 1206; JLCPCB Basic Part: No; JLCPCB Part Number: C5120118; Supplier 1: LCSC; Category: Inductors; Supplier Part Number 1: C5120118; RoHS: Yes; ComponentLink1Description: Datasheet; ComponentLink1URL: https://wmsc.lcsc.com/wmsc/upload/file/pdf/v2/lcsc/2207261100_microgate-MGLB3216M121T5R0-LF_C5120118.pdf; ComponentLink2Description: JLCPCB Part URL; ComponentLink2URL: https://jlcpcb.com/partdetail/C5120118; ComponentLink3Description: LCSC Part URL; ComponentLink3URL: https://lcsc.com/product-detail/Inductors-SMD_microgate-microgate-MGLB3216M121T5R0-LF_C5120118.html
footprint IND-1206 (1206 (3216M) Inductor)
pins: 1, 2